# Altium footprint library LT3094EMSETRPBF.PcbLib: 3 footprints
Each footprint in its own frame and in the unit in brackets; x right, y up, seen from the top. Pads: shape width x height; smd on the part's side, far side on the other; paste and mask are expansions set on the pad; w line width, h text height; cw(c..) or ccw(c..) is an arc to the next point about the centre after c.
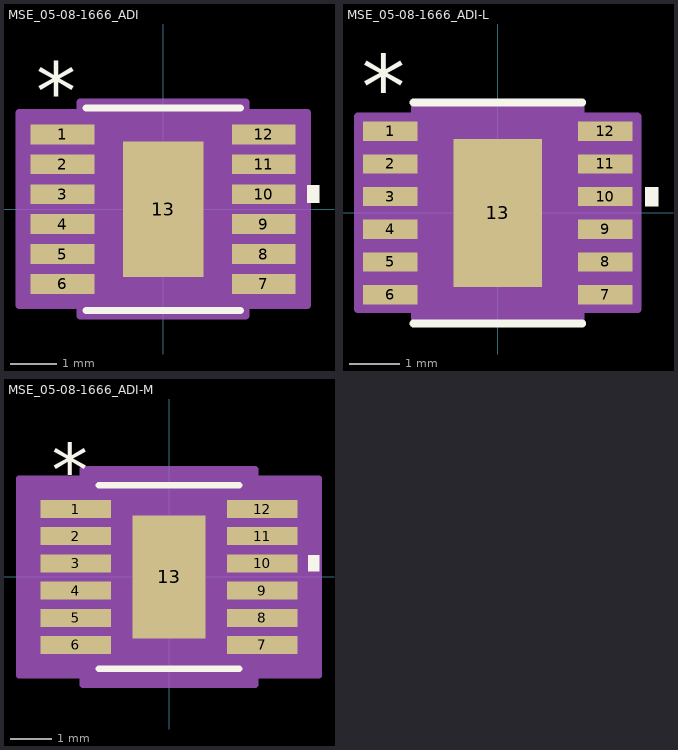
[diagram p0: the footprints below, top view; thin cyan lines are the x and y axes]

## MSE_05-08-1666_ADI [mil]
pads (13):
  rect 54.56x16.97 smd paste+0 mask+0: 1(-86,63.98) 2(-86,38.39) 3(-86,12.8) 4(-86,-12.8) 5(-86,-38.39) 6(-86,-63.98) 7(86,-63.98) 8(86,-38.39) 9(86,-12.8) 10(86,12.8) 11(86,38.39) 12(86,63.98)
  rect 69x116 smd paste-57.5 mask+0: 13(0,0)
Top Overlay:
  region: 123.28,20.3 133.28,20.3 133.28,5.3 123.28,5.3
  lines w6: -66,-86.5 66,-86.5 ; -66,86.5 66,86.5
  text ".Designator" at -137.5,-25 h50
  text "*" at -108.5,75.94 h50
Top Paste:
  region: 30.56,54.06 -30.56,54.06 -30.56,3.94 30.56,3.94
  region: 30.56,-3.94 -30.56,-3.94 -30.56,-54.06 30.56,-54.06
Mechanical 13:
  lines w1: -12,81.5 ccw(c0,81.5) 12,81.5 ; -99.5,-71.48 -99.5,-56.48 -61,-56.48 -61,-71.48 -99.5,-71.48 ; -99.5,-45.89 -99.5,-30.89 -61,-30.89 -61,-45.89 -99.5,-45.89 ; -99.5,-20.3 -99.5,-5.3 -61,-5.3 -61,-20.3 -99.5,-20.3 ; -99.5,5.3 -99.5,20.3 -61,20.3 -61,5.3 -99.5,5.3 ; -99.5,30.89 -99.5,45.89 -61,45.89 -61,30.89 -99.5,30.89 ; -99.5,56.48 -99.5,71.48 -61,71.48 -61,56.48 -99.5,56.48 ; -61,-81.5 61,-81.5 61,81.5 -61,81.5 -61,-81.5 ; 61,-71.48 61,-56.48 99.5,-56.48 99.5,-71.48 61,-71.48 ; 61,-45.89 61,-30.89 99.5,-30.89 99.5,-45.89 61,-45.89 ; 61,-20.3 61,-5.3 99.5,-5.3 99.5,-20.3 61,-20.3 ; 61,5.3 61,20.3 99.5,20.3 99.5,5.3 61,5.3 ; 61,30.89 61,45.89 99.5,45.89 99.5,30.89 61,30.89 ; 61,56.48 61,71.48 99.5,71.48 99.5,56.48 61,56.48
  text "*" at -58.5,28.5 h50
  text ".Designator" at -137.5,-25 h50
Mechanical 15:
  region: -71,-82.46 -123.28,-82.46 -123.28,82.46 -71,82.46 -71,91.5 71,91.5 71,82.46 123.28,82.46 123.28,-82.46 71,-82.46 71,-91.5 -71,-91.5
  lines w6: -123.28,-82.46 -123.28,82.46 -71,82.46 -71,91.5 71,91.5 71,82.46 123.28,82.46 123.28,-82.46 71,-82.46 71,-91.5 -71,-91.5 -71,-82.46 -123.28,-82.46
3D body "MSE_05-08-1666_ADI.step": height 43.11, standoff 0, extent -99.49,-81.5 99.49,81.5

## MSE_05-08-1666_ADI-L [mil]
pads (13):
  rect 42.75x15 smd paste+0 mask+0: 1(-84.03,63.98) 2(-84.03,38.39) 3(-84.03,12.8) 4(-84.03,-12.8) 5(-84.03,-38.39) 6(-84.03,-63.98) 7(84.03,-63.98) 8(84.03,-38.39) 9(84.03,-12.8) 10(84.03,12.8) 11(84.03,38.39) 12(84.03,63.98)
  rect 69x116 smd paste-57.5 mask+0: 13(0,0)
Top Overlay:
  region: 115.41,20.3 125.41,20.3 125.41,5.3 115.41,5.3
  lines w6: -66,-86.5 66,-86.5 ; -66,86.5 66,86.5
  text ".Designator" at -137.5,-25 h50
  text "*" at -106.53,73.98 h50
Top Paste:
  region: 30.56,54.06 -30.56,54.06 -30.56,3.94 30.56,3.94
  region: 30.56,-3.94 -30.56,-3.94 -30.56,-54.06 30.56,-54.06
Mechanical 13:
  lines w1: -12,81.5 ccw(c0,81.5) 12,81.5 ; -99.5,-71.48 -99.5,-56.48 -61,-56.48 -61,-71.48 -99.5,-71.48 ; -99.5,-45.89 -99.5,-30.89 -61,-30.89 -61,-45.89 -99.5,-45.89 ; -99.5,-20.3 -99.5,-5.3 -61,-5.3 -61,-20.3 -99.5,-20.3 ; -99.5,5.3 -99.5,20.3 -61,20.3 -61,5.3 -99.5,5.3 ; -99.5,30.89 -99.5,45.89 -61,45.89 -61,30.89 -99.5,30.89 ; -99.5,56.48 -99.5,71.48 -61,71.48 -61,56.48 -99.5,56.48 ; -61,-81.5 61,-81.5 61,81.5 -61,81.5 -61,-81.5 ; 61,-71.48 61,-56.48 99.5,-56.48 99.5,-71.48 61,-71.48 ; 61,-45.89 61,-30.89 99.5,-30.89 99.5,-45.89 61,-45.89 ; 61,-20.3 61,-5.3 99.5,-5.3 99.5,-20.3 61,-20.3 ; 61,5.3 61,20.3 99.5,20.3 99.5,5.3 61,5.3 ; 61,30.89 61,45.89 99.5,45.89 99.5,30.89 61,30.89 ; 61,56.48 61,71.48 99.5,71.48 99.5,56.48 61,56.48
  text "*" at -58.5,28.5 h50
  text ".Designator" at -137.5,-25 h50
Mechanical 15:
  region: -65,-75.48 -109.41,-75.48 -109.41,75.48 -65,75.48 -65,85.5 65,85.5 65,75.48 109.41,75.48 109.41,-75.48 65,-75.48 65,-85.5 -65,-85.5
  lines w6: -109.41,-75.48 -109.41,75.48 -65,75.48 -65,85.5 65,85.5 65,75.48 109.41,75.48 109.41,-75.48 65,-75.48 65,-85.5 -65,-85.5 -65,-75.48 -109.41,-75.48
3D body "MSE_05-08-1666_ADI.step": height 43.11, standoff 0, extent -99.49,-81.5 99.49,81.5

## MSE_05-08-1666_ADI-M [mm]
pads (13):
  rect 1.686x0.431 smd paste+0 mask+0: 1(-2.234,1.625) 2(-2.234,0.975) 3(-2.234,0.325) 4(-2.234,-0.325) 5(-2.234,-0.975) 6(-2.234,-1.625) 7(2.234,-1.625) 8(2.234,-0.975) 9(2.234,-0.325) 10(2.234,0.325) 11(2.234,0.975) 12(2.234,1.625)
  rect 1.753x2.946 smd paste-1.46 mask+0: 13(0,0)
Top Overlay:
  region: 3.331,0.515 3.585,0.515 3.585,0.134 3.331,0.134
  lines w0.152: -1.676,-2.197 1.676,-2.197 ; -1.676,2.197 1.676,2.197
  text ".Designator" at -3.492,-0.635 h1.27
  text "*" at -2.806,1.929 h1.27
Top Paste:
  region: 0.776,1.373 -0.776,1.373 -0.776,0.1 0.776,0.1
  region: 0.776,-0.1 -0.776,-0.1 -0.776,-1.373 0.776,-1.373
Mechanical 13:
  lines w0.025: -0.305,2.07 ccw(c0,2.07) 0.305,2.07 ; -2.527,-1.815 -2.527,-1.434 -1.549,-1.434 -1.549,-1.815 -2.527,-1.815 ; -2.527,-1.165 -2.527,-0.784 -1.549,-0.784 -1.549,-1.165 -2.527,-1.165 ; -2.527,-0.515 -2.527,-0.134 -1.549,-0.134 -1.549,-0.515 -2.527,-0.515 ; -2.527,0.135 -2.527,0.516 -1.549,0.516 -1.549,0.135 -2.527,0.135 ; -2.527,0.784 -2.527,1.165 -1.549,1.165 -1.549,0.784 -2.527,0.784 ; -2.527,1.435 -2.527,1.816 -1.549,1.816 -1.549,1.435 -2.527,1.435 ; -1.549,-2.07 1.549,-2.07 1.549,2.07 -1.549,2.07 -1.549,-2.07 ; 1.549,-1.816 1.549,-1.435 2.527,-1.435 2.527,-1.816 1.549,-1.816 ; 1.549,-1.165 1.549,-0.784 2.527,-0.784 2.527,-1.165 1.549,-1.165 ; 1.549,-0.516 1.549,-0.135 2.527,-0.135 2.527,-0.516 1.549,-0.516 ; 1.549,0.134 1.549,0.515 2.527,0.515 2.527,0.134 1.549,0.134 ; 1.549,0.784 1.549,1.165 2.527,1.165 2.527,0.784 1.549,0.784 ; 1.549,1.434 1.549,1.815 2.527,1.815 2.527,1.434 1.549,1.434
  text "*" at -1.486,0.724 h1.27
  text ".Designator" at -3.492,-0.635 h1.27
Mechanical 15:
  region: -2.057,-2.348 -3.585,-2.348 -3.585,2.348 -2.057,2.348 -2.057,2.578 2.057,2.578 2.057,2.348 3.585,2.348 3.585,-2.348 2.057,-2.348 2.057,-2.578 -2.057,-2.578
  lines w0.152: -3.585,-2.348 -3.585,2.348 -2.057,2.348 -2.057,2.578 2.057,2.578 2.057,2.348 3.585,2.348 3.585,-2.348 2.057,-2.348 2.057,-2.578 -2.057,-2.578 -2.057,-2.348 -3.585,-2.348
3D body "MSE_05-08-1666_ADI.step": height 1.09, standoff 0, extent -2.527,-2.07 2.527,2.07